# EAGLE library part LMH6704 (library eric-custom)
LMH6704 Selectable gain buffer with disable, DC-coupled
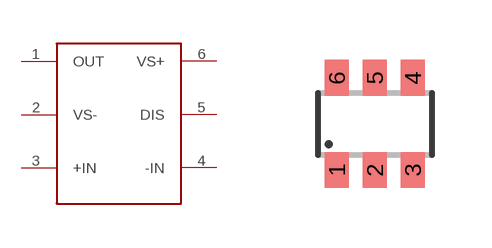
[diagram p7: symbol with the pads of SOT23-6; footprint SOT23-6]

Designator prefix -

## LMH6704  [SOT23-6]
1  OUT
2  VS-
3  +IN
4  -IN
5  DIS
6  VS+

## Footprint SOT23-6 (pad centres in mm)
Small Outline Transistor 6 lead
smd 0.6 x 0.9: 1 -0.95,-1.15; 2 0,-1.15; 3 0.95,-1.15; 4 0.95,1.15; 5 0,1.15; 6 -0.95,1.15